# Altium footprint library Zhe_Micromouse_Lib.PcbLib: 5 footprints
Each footprint in its own frame and in the unit in brackets; x right, y up, seen from the top. Pads: shape width x height; smd on the part's side, far side on the other; paste and mask are expansions set on the pad; w line width, h text height; cw(c..) or ccw(c..) is an arc to the next point about the centre after c.
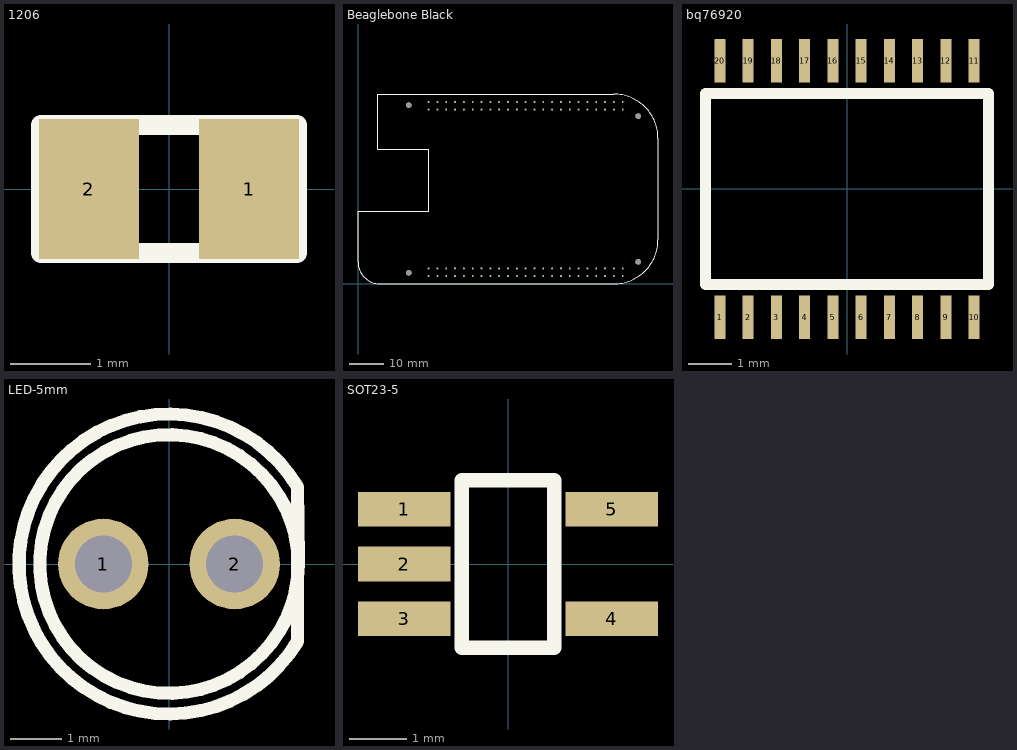
[diagram p0: the footprints below, top view; thin cyan lines are the x and y axes]

## 1206 [mm]
pads (2):
  rect 1.25x1.75 smd: 1(1,0) 2(-1,0)
Top Overlay:
  lines w0.254: -1.6,-0.8 -1.6,0.8 1.6,0.8 1.6,-0.8 -1.6,-0.8
3D body: height 0.25, standoff 0, extent -1.143,-0.381 -1.143,-0.381
3D body: height 0.25, standoff 0, extent -1.143,-0.381 -1.143,-0.381
3D body: height 0.55, standoff 0, extent -1.651,-0.889 1.651,0.889
3D body: height 0.25, standoff 0, extent -1.651,0.762 -1.651,0.762

## Beaglebone Black [mm]
pads (96):
  round 0.55 all layers, no hole: 1(20.32,2.222) 1(20.32,50.165) 2(20.32,4.445) 2(20.32,52.387) 3(22.86,2.222) 3(22.86,50.165) 4(22.86,4.445) 4(22.86,52.387) 5(25.4,2.222) 5(25.4,50.165) 6(25.4,4.445) 6(25.4,52.387) 7(27.94,2.222) 7(27.94,50.165) 8(27.94,4.445) 8(27.94,52.387) 9(30.48,2.222) 9(30.48,50.165) 10(30.48,4.445) 10(30.48,52.387) 11(33.02,2.222) 11(33.02,50.165) 12(33.02,4.445) 12(33.02,52.387) 13(35.56,2.222) 13(35.56,50.165) 14(35.56,4.445) 14(35.56,52.387) 15(38.1,2.222) 15(38.1,50.165) 16(38.1,4.445) 16(38.1,52.387) 17(40.64,2.222) 17(40.64,50.165) 18(40.64,4.445) 18(40.64,52.387) 19(43.18,2.222) 19(43.18,50.165) 20(43.18,4.445) 20(43.18,52.387) 21(45.72,2.222) 21(45.72,50.165) 22(45.72,4.445) 22(45.72,52.387) 23(48.26,2.222) 23(48.26,50.165) 24(48.26,4.445) 24(48.26,52.387) 25(50.8,2.222) 25(50.8,50.165) 26(50.8,4.445) 26(50.8,52.387) 27(53.34,2.222) 27(53.34,50.165) 28(53.34,4.445) 28(53.34,52.387) 29(55.88,2.222) 29(55.88,50.165) 30(55.88,4.445) 30(55.88,52.387) 31(58.42,2.222) 31(58.42,50.165) 32(58.42,4.445) 32(58.42,52.387) 33(60.96,2.222) 33(60.96,50.165) 34(60.96,4.445) 34(60.96,52.387) 35(63.5,2.222) 35(63.5,50.165) 36(63.5,4.445) 36(63.5,52.387) 37(66.04,2.222) 37(66.04,50.165) 38(66.04,4.445) 38(66.04,52.387) 39(68.58,2.222) 39(68.58,50.165) 40(68.58,4.445) 40(68.58,52.387) 41(71.12,2.222) 41(71.12,50.165) 42(71.12,4.445) 42(71.12,52.387) 43(73.66,2.222) 43(73.66,50.165) 44(73.66,4.445) 44(73.66,52.387) 45(76.2,2.222) 45(76.2,50.165) 46(76.2,4.445) 46(76.2,52.387)
  round 1.587 hole 1.587 unplated: ""(14.605,3.175) ""(14.605,51.435) ""(80.645,6.35) ""(80.645,48.26)
Top Overlay:
  lines w0.254: 0,6.35 ccw(c6.35,6.35) 6.35,0 73.66,0 ccw(c73.66,12.7) 86.36,12.7 86.36,41.91 ccw(c73.66,41.91) 73.66,54.61 5.715,54.61 5.715,38.735 20.32,38.735 20.32,20.955 0,20.955 0,6.35
3D body: height 12.7, standoff 0, extent 0,0 86.36,54.614

## bq76920 [mm]
pads (20):
  rect 0.25x1 smd: 1(-2.925,-2.95) 2(-2.275,-2.95) 3(-1.625,-2.95) 4(-0.975,-2.95) 5(-0.325,-2.95) 6(0.325,-2.95) 7(0.975,-2.95) 8(1.625,-2.95) 9(2.275,-2.95) 10(2.925,-2.95) 11(2.925,2.95) 12(2.275,2.95) 13(1.625,2.95) 14(0.975,2.95) 15(0.325,2.95) 16(-0.325,2.95) 17(-0.975,2.95) 18(-1.625,2.95) 19(-2.275,2.95) 20(-2.925,2.95)
Top Overlay:
  lines w0.254: -3.25,-2.2 -3.25,2.2 3.25,2.2 3.25,-2.2 -3.25,-2.2

## LED-5mm [mm]
pads (2):
  round 1.75 hole 1.1: 1(-1.27,0) 2(1.27,0)
Top Overlay:
  circle w0.254: c0,0 r2.5
  lines w0.254: 2.483,-1.498 cw(c0,0) 2.487,1.492 2.5,0.1 ; 2.487,-1.498 2.487,1.449
3D body: height 1, standoff 0, extent -2.9,-2.897 2.9,2.897
3D body: height 8.75, standoff 3.75, extent -2.489,-2.497 2.5,2.497
3D body: height 6.25, standoff 1, extent -2.5,-2.497 2.5,2.497
3D body: height 3, standoff 0, extent 0.997,-0.275 1.545,0.274
3D body: height 3, standoff 0, extent 1.27,0 1.27,0
3D body: height 3, standoff 0, extent -1.543,-0.274 -0.995,0.275
3D body: height 0.25, standoff 0, extent -1.27,0 -1.27,0

## SOT23-5 [mm]
pads (5):
  rect 1.6x0.6 smd: 1(-1.8,0.95) 2(-1.8,0) 3(-1.8,-0.95) 4(1.8,-0.95) 5(1.8,0.95)
Top Overlay:
  lines w0.254: -0.8,-1.45 -0.8,1.45 0.8,1.45 0.8,-1.45 -0.8,-1.45
3D body: height 1.1, standoff 0.15, extent -0.8,-1.5 0.8,1.5